# Altium integrated library Analog Devices Switches and Multiplexers Multiplexers (Muxes).IntLib: 481 symbols (part 14 of 23)
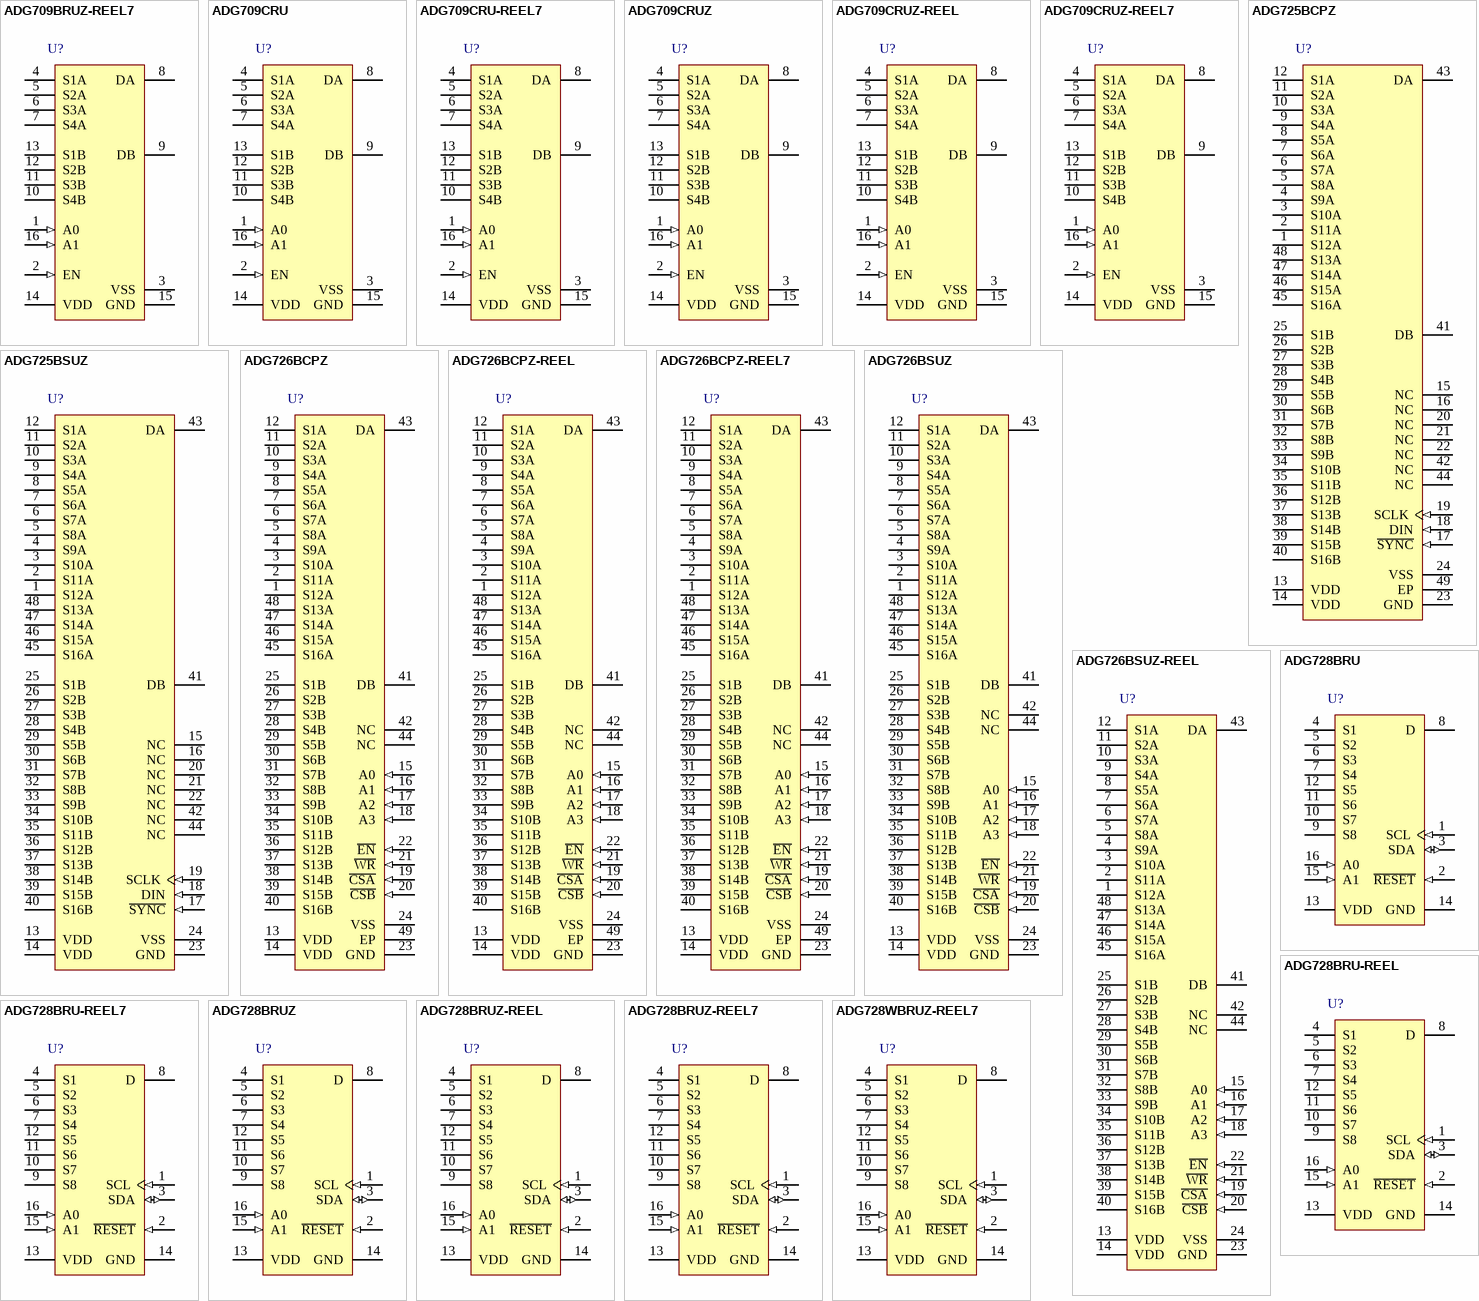
[diagram p30: symbols ADG709BRUZ-REEL7 to ADG728WBRUZ-REEL7]

## ADG726BCPZ-REEL
designator U?
1.8 to 5.5 V / +/-2.5 V, 4 Ohm, 16-Channel Analog Multiplexer, -40 to 85 degC, 48-pin QFN (CP-48-1), Reel; Manufacturer: Analog Devices; PartNumber: ADG726BCPZ-REEL; Bandwidth (Hz): 34M; Max Analog Signal Range: Vss to Vdd; Ron (ohms): 4; Supply V Guar Performance: Dual_(+/-2.5V), Single_(+3V), Single_(+5V); t transition (s): 23n; DatasheetVersion: Rev. 0; PackageReference: CP-48-1; PackageDescription: 48-Pin Lead Frame Chip Scale Package, Body 7 x 7 mm, Pitch 0.5 mm; Supplier 1: Digi-Key; Supplier Part Number 1: ADG726BCPZ-REEL-ND; Supplier 2: Mouser; Supplier Part Number 2: 584-ADG726BCPZ-R; Packing: Reel; Mounting Technology: Surface Mount; Code_JEDEC: MO-220-VKKD-2; ComponentLink1Description: Manufacturer URL; ComponentLink1URL: http://www.analog.com/en/index.html; ComponentLink2Description: Datasheet; ComponentLink2URL: http://www.analog.com/static/imported-files/data_sheets/ADG726_732.pdf; ComponentLink3Description: Package Specification; ComponentLink3URL: http:/www.analog.com/static/imported-files/packages/PKG_PDF/LFCSP(CP)/CP-48/CP_48_1.pdf
footprint ADI-CP-48-1_N (QFN, 48-Leads, Body 7x7mm, Pitch 0.5mm, IPC Medium Density)
footprint ADI-CP-48-1_L (QFN, 48-Leads, Body 7x7mm, Pitch 0.5mm, IPC High Density)
footprint ADI-CP-48-1_M (QFN, 48-Leads, Body 7x7mm, Pitch 0.5mm, IPC Low Density)
pins: 1 S12A "Source Terminal. May be an input or output.", 2 S11A "Source Terminal. May be an input or output.", 3 S10A "Source Terminal. May be an input or output.", 4 S9A "Source Terminal. May be an input or output.", 5 S8A "Source Terminal. May be an input or output.", 6 S7A "Source Terminal. May be an input or output.", 7 S6A "Source Terminal. May be an input or output.", 8 S5A "Source Terminal. May be an input or output.", 9 S4A "Source Terminal. May be an input or output.", 10 S3A "Source Terminal. May be an input or output.", 11 S2A "Source Terminal. May be an input or output.", 12 S1A "Source Terminal. May be an input or output.", 13 VDD (power) "Most Positive Power Supply Potential", 14 VDD (power) "Most Positive Power Supply Potential", 15 A0 (in), 16 A1 (in), 17 A2 (in), 18 A3 (in), 19 ~{CSA} (in), 20 ~{CSB} (in), 21 ~{WR} (in), 22 ~{EN} (in), 23 GND (power) "Ground (0 V) Reference", 24 VSS (power) "Most Negative Power Supply in a Dual-Supply Application. In single-supply applications, connect to GND.", 25 S1B "Source Terminal. May be an input or output.", 26 S2B "Source Terminal. May be an input or output.", 27 S3B "Source Terminal. May be an input or output.", 28 S4B "Source Terminal. May be an input or output.", 29 S5B "Source Terminal. May be an input or output.", 30 S6B "Source Terminal. May be an input or output.", 31 S7B "Source Terminal. May be an input or output.", 32 S8B "Source Terminal. May be an input or output.", 33 S9B "Source Terminal. May be an input or output.", 34 S10B "Source Terminal. May be an input or output.", 35 S11B "Source Terminal. May be an input or output.", 36 S12B "Source Terminal. May be an input or output.", 37 S13B "Source Terminal. May be an input or output.", 38 S14B "Source Terminal. May be an input or output.", 39 S15B "Source Terminal. May be an input or output.", 40 S16B "Source Terminal. May be an input or output.", 41 DB "Drain Terminal. May be an input or output.", 42 NC "No connect", 43 DA "Drain Terminal. May be an input or output.", 44 NC "No connect", 45 S16A "Source Terminal. May be an input or output.", 46 S15A "Source Terminal. May be an input or output.", 47 S14A "Source Terminal. May be an input or output.", 48 S13A "Source Terminal. May be an input or output.", 49 EP

## ADG726BCPZ-REEL7
designator U?
1.8 to 5.5 V / +/-2.5 V, 4 Ohm, 16-Channel Analog Multiplexer, -40 to 85 degC, 48-pin QFN (CP-48-1), Reel; Manufacturer: Analog Devices; PartNumber: ADG726BCPZ-REEL7; Bandwidth (Hz): 34M; Max Analog Signal Range: Vss to Vdd; Ron (ohms): 4; Supply V Guar Performance: Dual_(+/-2.5V), Single_(+3V), Single_(+5V); t transition (s): 23n; DatasheetVersion: Rev. 0; PackageReference: CP-48-1; PackageDescription: 48-Pin Lead Frame Chip Scale Package, Body 7 x 7 mm, Pitch 0.5 mm; Packing: Reel; Mounting Technology: Surface Mount; Code_JEDEC: MO-220-VKKD-2; ComponentLink1Description: Manufacturer URL; ComponentLink1URL: http://www.analog.com/en/index.html; ComponentLink2Description: Datasheet; ComponentLink2URL: http://www.analog.com/static/imported-files/data_sheets/ADG726_732.pdf; ComponentLink3Description: Package Specification; ComponentLink3URL: http:/www.analog.com/static/imported-files/packages/PKG_PDF/LFCSP(CP)/CP-48/CP_48_1.pdf
footprint ADI-CP-48-1_N (QFN, 48-Leads, Body 7x7mm, Pitch 0.5mm, IPC Medium Density)
footprint ADI-CP-48-1_L (QFN, 48-Leads, Body 7x7mm, Pitch 0.5mm, IPC High Density)
footprint ADI-CP-48-1_M (QFN, 48-Leads, Body 7x7mm, Pitch 0.5mm, IPC Low Density)
pins: 1 S12A "Source Terminal. May be an input or output.", 2 S11A "Source Terminal. May be an input or output.", 3 S10A "Source Terminal. May be an input or output.", 4 S9A "Source Terminal. May be an input or output.", 5 S8A "Source Terminal. May be an input or output.", 6 S7A "Source Terminal. May be an input or output.", 7 S6A "Source Terminal. May be an input or output.", 8 S5A "Source Terminal. May be an input or output.", 9 S4A "Source Terminal. May be an input or output.", 10 S3A "Source Terminal. May be an input or output.", 11 S2A "Source Terminal. May be an input or output.", 12 S1A "Source Terminal. May be an input or output.", 13 VDD (power) "Most Positive Power Supply Potential", 14 VDD (power) "Most Positive Power Supply Potential", 15 A0 (in), 16 A1 (in), 17 A2 (in), 18 A3 (in), 19 ~{CSA} (in), 20 ~{CSB} (in), 21 ~{WR} (in), 22 ~{EN} (in), 23 GND (power) "Ground (0 V) Reference", 24 VSS (power) "Most Negative Power Supply in a Dual-Supply Application. In single-supply applications, connect to GND.", 25 S1B "Source Terminal. May be an input or output.", 26 S2B "Source Terminal. May be an input or output.", 27 S3B "Source Terminal. May be an input or output.", 28 S4B "Source Terminal. May be an input or output.", 29 S5B "Source Terminal. May be an input or output.", 30 S6B "Source Terminal. May be an input or output.", 31 S7B "Source Terminal. May be an input or output.", 32 S8B "Source Terminal. May be an input or output.", 33 S9B "Source Terminal. May be an input or output.", 34 S10B "Source Terminal. May be an input or output.", 35 S11B "Source Terminal. May be an input or output.", 36 S12B "Source Terminal. May be an input or output.", 37 S13B "Source Terminal. May be an input or output.", 38 S14B "Source Terminal. May be an input or output.", 39 S15B "Source Terminal. May be an input or output.", 40 S16B "Source Terminal. May be an input or output.", 41 DB "Drain Terminal. May be an input or output.", 42 NC "No connect", 43 DA "Drain Terminal. May be an input or output.", 44 NC "No connect", 45 S16A "Source Terminal. May be an input or output.", 46 S15A "Source Terminal. May be an input or output.", 47 S14A "Source Terminal. May be an input or output.", 48 S13A "Source Terminal. May be an input or output.", 49 EP

## ADG726BSUZ
designator U?
1.8 to 5.5 V / +/-2.5 V, 4 Ohm, 16-Channel Analog Multiplexer, -40 to 85 degC, 48-pin QFP (SU-48), Tray; Manufacturer: Analog Devices; PartNumber: ADG726BSUZ; Bandwidth (Hz): 34M; Max Analog Signal Range: Vss to Vdd; Ron (ohms): 4; Supply V Guar Performance: Dual_(+/-2.5V), Single_(+3V), Single_(+5V); t transition (s): 23n; DatasheetVersion: Rev. 0; PackageReference: SU-48; PackageDescription: 48-Pin Thin Plastic Quad Flat Package, Body 7 x 7 mm, Pitch 0.5 mm; Supplier 1: Digi-Key; Supplier Part Number 1: ADG726BSUZ-ND; Supplier 2: Farnell; Supplier Part Number 2: 1438753; Supplier 3: Newark; Supplier Part Number 3: 59K1555; Supplier 4: Mouser; Supplier Part Number 4: 584-ADG726BSUZ; Packing: Tray; Mounting Technology: Surface Mount; Code_JEDEC: MS-026ABC; ComponentLink1Description: Manufacturer URL; ComponentLink1URL: http://www.analog.com/en/index.html; ComponentLink2Description: Datasheet; ComponentLink2URL: http://www.analog.com/static/imported-files/data_sheets/ADG726_732.pdf; ComponentLink3Description: Package Specification; ComponentLink3URL: http://www.analog.com/static/imported-files/packages/470644706845302410119987SU48_7x7.pdf
footprint ADI-SU-48_N (QFP, 48-Leads, Body 7x7mm, Pitch 0.5mm, IPC Medium Density)
footprint ADI-SU-48_L (QFP, 48-Leads, Body 7x7mm, Pitch 0.5mm, IPC High Density)
footprint ADI-SU-48_M (QFP, 48-Leads, Body 7x7mm, Pitch 0.5mm, IPC Low Density)
pins: 1 S12A "Source Terminal. May be an input or output.", 2 S11A "Source Terminal. May be an input or output.", 3 S10A "Source Terminal. May be an input or output.", 4 S9A "Source Terminal. May be an input or output.", 5 S8A "Source Terminal. May be an input or output.", 6 S7A "Source Terminal. May be an input or output.", 7 S6A "Source Terminal. May be an input or output.", 8 S5A "Source Terminal. May be an input or output.", 9 S4A "Source Terminal. May be an input or output.", 10 S3A "Source Terminal. May be an input or output.", 11 S2A "Source Terminal. May be an input or output.", 12 S1A "Source Terminal. May be an input or output.", 13 VDD (power) "Most Positive Power Supply Potential", 14 VDD (power) "Most Positive Power Supply Potential", 15 A0 (in), 16 A1 (in), 17 A2 (in), 18 A3 (in), 19 ~{CSA} (in), 20 ~{CSB} (in), 21 ~{WR} (in), 22 ~{EN} (in), 23 GND (power) "Ground (0 V) Reference", 24 VSS (power) "Most Negative Power Supply in a Dual-Supply Application. In single-supply applications, connect to GND.", 25 S1B "Source Terminal. May be an input or output.", 26 S2B "Source Terminal. May be an input or output.", 27 S3B "Source Terminal. May be an input or output.", 28 S4B "Source Terminal. May be an input or output.", 29 S5B "Source Terminal. May be an input or output.", 30 S6B "Source Terminal. May be an input or output.", 31 S7B "Source Terminal. May be an input or output.", 32 S8B "Source Terminal. May be an input or output.", 33 S9B "Source Terminal. May be an input or output.", 34 S10B "Source Terminal. May be an input or output.", 35 S11B "Source Terminal. May be an input or output.", 36 S12B "Source Terminal. May be an input or output.", 37 S13B "Source Terminal. May be an input or output.", 38 S14B "Source Terminal. May be an input or output.", 39 S15B "Source Terminal. May be an input or output.", 40 S16B "Source Terminal. May be an input or output.", 41 DB "Drain Terminal. May be an input or output.", 42 NC "NO CONNECT", 43 DA "Drain Terminal. May be an input or output.", 44 NC "NO CONNECT", 45 S16A "Source Terminal. May be an input or output.", 46 S15A "Source Terminal. May be an input or output.", 47 S14A "Source Terminal. May be an input or output.", 48 S13A "Source Terminal. May be an input or output."

## ADG726BSUZ-REEL
designator U?
1.8 to 5.5 V / +/-2.5 V, 4 Ohm, 16-Channel Analog Multiplexer, -40 to 85 degC, 48-pin QFP (SU-48), Reel; Manufacturer: Analog Devices; PartNumber: ADG726BSUZ-REEL; Bandwidth (Hz): 34M; Max Analog Signal Range: Vss to Vdd; Ron (ohms): 4; Supply V Guar Performance: Dual_(+/-2.5V), Single_(+3V), Single_(+5V); t transition (s): 23n; DatasheetVersion: Rev. 0; PackageReference: SU-48; PackageDescription: 48-Pin Thin Plastic Quad Flat Package, Body 7 x 7 mm, Pitch 0.5 mm; Supplier 1: Digi-Key; Supplier Part Number 1: ADG726BSUZ-REEL-ND; Supplier 2: Mouser; Supplier Part Number 2: 584-ADG726BSUZ-R; Packing: Reel; Mounting Technology: Surface Mount; Code_JEDEC: MS-026ABC; ComponentLink1Description: Manufacturer URL; ComponentLink1URL: http://www.analog.com/en/index.html; ComponentLink2Description: Datasheet; ComponentLink2URL: http://www.analog.com/static/imported-files/data_sheets/ADG726_732.pdf; ComponentLink3Description: Package Specification; ComponentLink3URL: http://www.analog.com/static/imported-files/packages/470644706845302410119987SU48_7x7.pdf
footprint ADI-SU-48_N (QFP, 48-Leads, Body 7x7mm, Pitch 0.5mm, IPC Medium Density)
footprint ADI-SU-48_L (QFP, 48-Leads, Body 7x7mm, Pitch 0.5mm, IPC High Density)
footprint ADI-SU-48_M (QFP, 48-Leads, Body 7x7mm, Pitch 0.5mm, IPC Low Density)
pins: 1 S12A "Source Terminal. May be an input or output.", 2 S11A "Source Terminal. May be an input or output.", 3 S10A "Source Terminal. May be an input or output.", 4 S9A "Source Terminal. May be an input or output.", 5 S8A "Source Terminal. May be an input or output.", 6 S7A "Source Terminal. May be an input or output.", 7 S6A "Source Terminal. May be an input or output.", 8 S5A "Source Terminal. May be an input or output.", 9 S4A "Source Terminal. May be an input or output.", 10 S3A "Source Terminal. May be an input or output.", 11 S2A "Source Terminal. May be an input or output.", 12 S1A "Source Terminal. May be an input or output.", 13 VDD (power) "Most Positive Power Supply Potential", 14 VDD (power) "Most Positive Power Supply Potential", 15 A0 (in), 16 A1 (in), 17 A2 (in), 18 A3 (in), 19 ~{CSA} (in), 20 ~{CSB} (in), 21 ~{WR} (in), 22 ~{EN} (in), 23 GND (power) "Ground (0 V) Reference", 24 VSS (power) "Most Negative Power Supply in a Dual-Supply Application. In single-supply applications, connect to GND.", 25 S1B "Source Terminal. May be an input or output.", 26 S2B "Source Terminal. May be an input or output.", 27 S3B "Source Terminal. May be an input or output.", 28 S4B "Source Terminal. May be an input or output.", 29 S5B "Source Terminal. May be an input or output.", 30 S6B "Source Terminal. May be an input or output.", 31 S7B "Source Terminal. May be an input or output.", 32 S8B "Source Terminal. May be an input or output.", 33 S9B "Source Terminal. May be an input or output.", 34 S10B "Source Terminal. May be an input or output.", 35 S11B "Source Terminal. May be an input or output.", 36 S12B "Source Terminal. May be an input or output.", 37 S13B "Source Terminal. May be an input or output.", 38 S14B "Source Terminal. May be an input or output.", 39 S15B "Source Terminal. May be an input or output.", 40 S16B "Source Terminal. May be an input or output.", 41 DB "Drain Terminal. May be an input or output.", 42 NC "NO CONNECT", 43 DA "Drain Terminal. May be an input or output.", 44 NC "NO CONNECT", 45 S16A "Source Terminal. May be an input or output.", 46 S15A "Source Terminal. May be an input or output.", 47 S14A "Source Terminal. May be an input or output.", 48 S13A "Source Terminal. May be an input or output."

## ADG728BRU
designator U?
CMOS, Low Voltage, 2-Wire Serially Controlled, Matrix Switch, -40 to 85 degC, 16-pin SOP (RU-16), Tube; Manufacturer: Analog Devices; PartNumber: ADG728BRU; Bandwidth (Hz): 65M; Max Analog Signal Range: 0 to Vdd; Ron (ohms): 2.5; Supply V Guar Performance: Single_(+3V), Single_(+5V); DatasheetVersion: Rev. C; PackageVersion: Nov-02; PackageReference: RU-16; PackageDescription: 16-Pin Thin Shrink Small Outline Package, Body 5 x 4.4 mm, Pitch 0.65 mm; Supplier 1: Digi-Key; Supplier Part Number 1: ADG728BRU-ND; Supplier 2: Mouser; Supplier Part Number 2: 584-ADG728BRU; Packing: Tube; Mounting Technology: Surface Mount; Code_JEDEC: MO-153AB; ComponentLink1Description: Manufacturer URL; ComponentLink1URL: http://www.analog.com/en/index.html; ComponentLink2Description: Datasheet; ComponentLink2URL: http://www.analog.com/static/imported-files/data_sheets/ADG728_729.pdf; ComponentLink3Description: Package Specification; ComponentLink3URL: http:/www.analog.com/static/imported-files/packages/36244347913743854010197452789RU16.pdf
footprint ADI-RU-16_N (SOP, 16-Leads, Body 5x4.4mm, Pitch 0.65mm, IPC Medium Density)
footprint ADI-RU-16_L (SOP, 16-Leads, Body 5x4.4mm, Pitch 0.65mm, IPC High Density)
footprint ADI-RU-16_M (SOP, 16-Leads, Body 5x4.4mm, Pitch 0.65mm, IPC Low Density)
pins: 1 SCL (in) "Serial Clock Line. This is used in conjunction with the SDA line to clock data into the 8-bit input shift register. Clock rates of up to 400 kbit/s can be accommodated with this 2-wire serial interface.", 2 ~{RESET} (in) "Active low control input that clears the input register and turns all switches to the OFF condition.", 3 SDA (io) "Serial Data Line. This is used in conjunction with the SCL line to clock data into the 8-bit input shift register during the write cycle and used to read back 1 byte of data during the read cycle. It is a bidirectional (See Datasheet)", 4 S1 "Source. May be an input or output.", 5 S2 "Source. May be an input or output.", 6 S3 "Source. May be an input or output.", 7 S4 "Source. May be an input or output.", 8 D "Drain. May be an input or output.", 9 S8 "Source. May be an input or output.", 10 S7 "Source. May be an input or output.", 11 S6 "Source. May be an input or output.", 12 S5 "Source. May be an input or output.", 13 VDD (power) "Power Supply Input. These parts can be operated from a supply of 2.7 V to 5.5 V.", 14 GND (power) "Ground Reference.", 15 A1 (in) "Address Input. Sets the second least significant bit of the 7-bit slave address.", 16 A0 (in) "Address Input. Sets the least significant bit of the 7-bit slave address."

## ADG728BRU-REEL
designator U?
CMOS, Low Voltage, 2-Wire Serially Controlled, Matrix Switch, -40 to 85 degC, 16-pin SOP (RU-16), Reel; Manufacturer: Analog Devices; PartNumber: ADG728BRU-REEL; Bandwidth (Hz): 65M; Max Analog Signal Range: 0 to Vdd; Ron (ohms): 2.5; Supply V Guar Performance: Single_(+3V), Single_(+5V); DatasheetVersion: Rev. C; PackageVersion: Nov-02; PackageReference: RU-16; PackageDescription: 16-Pin Thin Shrink Small Outline Package, Body 5 x 4.4 mm, Pitch 0.65 mm; Supplier 1: Digi-Key; Supplier Part Number 1: ADG728BRU-REEL-ND; Supplier 2: Mouser; Supplier Part Number 2: 584-ADG728BRU-R; Packing: Reel; Mounting Technology: Surface Mount; Code_JEDEC: MO-153AB; ComponentLink1Description: Manufacturer URL; ComponentLink1URL: http://www.analog.com/en/index.html; ComponentLink2Description: Datasheet; ComponentLink2URL: http://www.analog.com/static/imported-files/data_sheets/ADG728_729.pdf; ComponentLink3Description: Package Specification; ComponentLink3URL: http:/www.analog.com/static/imported-files/packages/36244347913743854010197452789RU16.pdf
footprint ADI-RU-16_N (SOP, 16-Leads, Body 5x4.4mm, Pitch 0.65mm, IPC Medium Density)
footprint ADI-RU-16_L (SOP, 16-Leads, Body 5x4.4mm, Pitch 0.65mm, IPC High Density)
footprint ADI-RU-16_M (SOP, 16-Leads, Body 5x4.4mm, Pitch 0.65mm, IPC Low Density)
pins: 1 SCL (in) "Serial Clock Line. This is used in conjunction with the SDA line to clock data into the 8-bit input shift register. Clock rates of up to 400 kbit/s can be accommodated with this 2-wire serial interface.", 2 ~{RESET} (in) "Active low control input that clears the input register and turns all switches to the OFF condition.", 3 SDA (io) "Serial Data Line. This is used in conjunction with the SCL line to clock data into the 8-bit input shift register during the write cycle and used to read back 1 byte of data during the read cycle. It is a bidirectional (See Datasheet)", 4 S1 "Source. May be an input or output.", 5 S2 "Source. May be an input or output.", 6 S3 "Source. May be an input or output.", 7 S4 "Source. May be an input or output.", 8 D "Drain. May be an input or output.", 9 S8 "Source. May be an input or output.", 10 S7 "Source. May be an input or output.", 11 S6 "Source. May be an input or output.", 12 S5 "Source. May be an input or output.", 13 VDD (power) "Power Supply Input. These parts can be operated from a supply of 2.7 V to 5.5 V.", 14 GND (power) "Ground Reference.", 15 A1 (in) "Address Input. Sets the second least significant bit of the 7-bit slave address.", 16 A0 (in) "Address Input. Sets the least significant bit of the 7-bit slave address."

## ADG728BRU-REEL7
designator U?
CMOS, Low Voltage, 2-Wire Serially Controlled, Matrix Switch, -40 to 85 degC, 16-pin SOP (RU-16), Reel; Manufacturer: Analog Devices; PartNumber: ADG728BRU-REEL7; Bandwidth (Hz): 65M; Max Analog Signal Range: 0 to Vdd; Ron (ohms): 2.5; Supply V Guar Performance: Single_(+3V), Single_(+5V); DatasheetVersion: Rev. C; PackageVersion: Nov-02; PackageReference: RU-16; PackageDescription: 16-Pin Thin Shrink Small Outline Package, Body 5 x 4.4 mm, Pitch 0.65 mm; Supplier 1: Digi-Key; Supplier Part Number 1: ADG728BRU-REEL7-ND; Supplier 2: Mouser; Supplier Part Number 2: 584-ADG728BRU-R7; Packing: Reel; Mounting Technology: Surface Mount; Code_JEDEC: MO-153AB; ComponentLink1Description: Manufacturer URL; ComponentLink1URL: http://www.analog.com/en/index.html; ComponentLink2Description: Datasheet; ComponentLink2URL: http://www.analog.com/static/imported-files/data_sheets/ADG728_729.pdf; ComponentLink3Description: Package Specification; ComponentLink3URL: http:/www.analog.com/static/imported-files/packages/36244347913743854010197452789RU16.pdf
footprint ADI-RU-16_N (SOP, 16-Leads, Body 5x4.4mm, Pitch 0.65mm, IPC Medium Density)
footprint ADI-RU-16_L (SOP, 16-Leads, Body 5x4.4mm, Pitch 0.65mm, IPC High Density)
footprint ADI-RU-16_M (SOP, 16-Leads, Body 5x4.4mm, Pitch 0.65mm, IPC Low Density)
pins: 1 SCL (in) "Serial Clock Line. This is used in conjunction with the SDA line to clock data into the 8-bit input shift register. Clock rates of up to 400 kbit/s can be accommodated with this 2-wire serial interface.", 2 ~{RESET} (in) "Active low control input that clears the input register and turns all switches to the OFF condition.", 3 SDA (io) "Serial Data Line. This is used in conjunction with the SCL line to clock data into the 8-bit input shift register during the write cycle and used to read back 1 byte of data during the read cycle. It is a bidirectional (See Datasheet)", 4 S1 "Source. May be an input or output.", 5 S2 "Source. May be an input or output.", 6 S3 "Source. May be an input or output.", 7 S4 "Source. May be an input or output.", 8 D "Drain. May be an input or output.", 9 S8 "Source. May be an input or output.", 10 S7 "Source. May be an input or output.", 11 S6 "Source. May be an input or output.", 12 S5 "Source. May be an input or output.", 13 VDD (power) "Power Supply Input. These parts can be operated from a supply of 2.7 V to 5.5 V.", 14 GND (power) "Ground Reference.", 15 A1 (in) "Address Input. Sets the second least significant bit of the 7-bit slave address.", 16 A0 (in) "Address Input. Sets the least significant bit of the 7-bit slave address."

## ADG728BRUZ
designator U?
CMOS, Low Voltage, 2-Wire Serially Controlled, Matrix Switch, -40 to 85 degC, 16-pin SOP (RU-16), Tube; Manufacturer: Analog Devices; PartNumber: ADG728BRUZ; Bandwidth (Hz): 65M; Max Analog Signal Range: 0 to Vdd; Ron (ohms): 2.5; Supply V Guar Performance: Single_(+3V), Single_(+5V); DatasheetVersion: Rev. C; PackageVersion: Nov-02; PackageReference: RU-16; PackageDescription: 16-Pin Thin Shrink Small Outline Package, Body 5 x 4.4 mm, Pitch 0.65 mm; Supplier 1: Digi-Key; Supplier Part Number 1: ADG728BRUZ-ND; Supplier 2: Farnell; Supplier Part Number 2: 9604383; Supplier 3: Newark; Supplier Part Number 3: 31M3815; Supplier 4: Newark; Supplier Part Number 4: 19M0691; Supplier 5: Mouser; Supplier Part Number 5: 584-ADG728BRUZ; Packing: Tube; Mounting Technology: Surface Mount; Code_JEDEC: MO-153AB; ComponentLink1Description: Manufacturer URL; ComponentLink1URL: http://www.analog.com/en/index.html; ComponentLink2Description: Datasheet; ComponentLink2URL: http://www.analog.com/static/imported-files/data_sheets/ADG728_729.pdf; ComponentLink3Description: Package Specification; ComponentLink3URL: http:/www.analog.com/static/imported-files/packages/36244347913743854010197452789RU16.pdf
footprint ADI-RU-16_N (SOP, 16-Leads, Body 5x4.4mm, Pitch 0.65mm, IPC Medium Density)
footprint ADI-RU-16_L (SOP, 16-Leads, Body 5x4.4mm, Pitch 0.65mm, IPC High Density)
footprint ADI-RU-16_M (SOP, 16-Leads, Body 5x4.4mm, Pitch 0.65mm, IPC Low Density)
pins: 1 SCL (in) "Serial Clock Line. This is used in conjunction with the SDA line to clock data into the 8-bit input shift register. Clock rates of up to 400 kbit/s can be accommodated with this 2-wire serial interface.", 2 ~{RESET} (in) "Active low control input that clears the input register and turns all switches to the OFF condition.", 3 SDA (io) "Serial Data Line. This is used in conjunction with the SCL line to clock data into the 8-bit input shift register during the write cycle and used to read back 1 byte of data during the read cycle. It is a bidirectional (See Datasheet)", 4 S1 "Source. May be an input or output.", 5 S2 "Source. May be an input or output.", 6 S3 "Source. May be an input or output.", 7 S4 "Source. May be an input or output.", 8 D "Drain. May be an input or output.", 9 S8 "Source. May be an input or output.", 10 S7 "Source. May be an input or output.", 11 S6 "Source. May be an input or output.", 12 S5 "Source. May be an input or output.", 13 VDD (power) "Power Supply Input. These parts can be operated from a supply of 2.7 V to 5.5 V.", 14 GND (power) "Ground Reference.", 15 A1 (in) "Address Input. Sets the second least significant bit of the 7-bit slave address.", 16 A0 (in) "Address Input. Sets the least significant bit of the 7-bit slave address."

## ADG728BRUZ-REEL
designator U?
CMOS, Low Voltage, 2-Wire Serially Controlled, Matrix Switch, -40 to 85 degC, 16-pin SOP (RU-16), Reel; Manufacturer: Analog Devices; PartNumber: ADG728BRUZ-REEL; Bandwidth (Hz): 65M; Max Analog Signal Range: 0 to Vdd; Ron (ohms): 2.5; Supply V Guar Performance: Single_(+3V), Single_(+5V); DatasheetVersion: Rev. C; PackageVersion: Nov-02; PackageReference: RU-16; PackageDescription: 16-Pin Thin Shrink Small Outline Package, Body 5 x 4.4 mm, Pitch 0.65 mm; Supplier 1: Digi-Key; Supplier Part Number 1: ADG728BRUZ-REEL-ND; Supplier 2: Newark; Supplier Part Number 2: 59K1558; Packing: Reel; Mounting Technology: Surface Mount; Code_JEDEC: MO-153AB; ComponentLink1Description: Manufacturer URL; ComponentLink1URL: http://www.analog.com/en/index.html; ComponentLink2Description: Datasheet; ComponentLink2URL: http://www.analog.com/static/imported-files/data_sheets/ADG728_729.pdf; ComponentLink3Description: Package Specification; ComponentLink3URL: http:/www.analog.com/static/imported-files/packages/36244347913743854010197452789RU16.pdf
footprint ADI-RU-16_N (SOP, 16-Leads, Body 5x4.4mm, Pitch 0.65mm, IPC Medium Density)
footprint ADI-RU-16_L (SOP, 16-Leads, Body 5x4.4mm, Pitch 0.65mm, IPC High Density)
footprint ADI-RU-16_M (SOP, 16-Leads, Body 5x4.4mm, Pitch 0.65mm, IPC Low Density)
pins: 1 SCL (in) "Serial Clock Line. This is used in conjunction with the SDA line to clock data into the 8-bit input shift register. Clock rates of up to 400 kbit/s can be accommodated with this 2-wire serial interface.", 2 ~{RESET} (in) "Active low control input that clears the input register and turns all switches to the OFF condition.", 3 SDA (io) "Serial Data Line. This is used in conjunction with the SCL line to clock data into the 8-bit input shift register during the write cycle and used to read back 1 byte of data during the read cycle. It is a bidirectional (See Datasheet)", 4 S1 "Source. May be an input or output.", 5 S2 "Source. May be an input or output.", 6 S3 "Source. May be an input or output.", 7 S4 "Source. May be an input or output.", 8 D "Drain. May be an input or output.", 9 S8 "Source. May be an input or output.", 10 S7 "Source. May be an input or output.", 11 S6 "Source. May be an input or output.", 12 S5 "Source. May be an input or output.", 13 VDD (power) "Power Supply Input. These parts can be operated from a supply of 2.7 V to 5.5 V.", 14 GND (power) "Ground Reference.", 15 A1 (in) "Address Input. Sets the second least significant bit of the 7-bit slave address.", 16 A0 (in) "Address Input. Sets the least significant bit of the 7-bit slave address."

## ADG728BRUZ-REEL7
designator U?
CMOS, Low Voltage, 2-Wire Serially Controlled, Matrix Switch, -40 to 85 degC, 16-pin SOP (RU-16), Reel; Manufacturer: Analog Devices; PartNumber: ADG728BRUZ-REEL7; Bandwidth (Hz): 65M; Max Analog Signal Range: 0 to Vdd; Packing: Tube; Ron (ohms): 2.5; Supply V Guar Performance: Single_(+3V), Single_(+5V); DatasheetVersion: Rev. C; PackageVersion: Nov-02; PackageReference: RU-16; PackageDescription: 16-Pin Thin Shrink Small Outline Package, Body 5 x 4.4 mm, Pitch 0.65 mm; Supplier 1: Digi-Key; Supplier Part Number 1: ADG728BRUZ-REEL7-ND; Supplier 2: Newark; Supplier Part Number 2: 59K1559; Supplier 3: Mouser; Supplier Part Number 3: 584-ADG728BRUZ-R7; Mounting Technology: Surface Mount; Code_JEDEC: MO-153AB; ComponentLink1Description: Manufacturer URL; ComponentLink1URL: http://www.analog.com/en/index.html; ComponentLink2Description: Datasheet; ComponentLink2URL: http://www.analog.com/static/imported-files/data_sheets/ADG728_729.pdf; ComponentLink3Description: Package Specification; ComponentLink3URL: http:/www.analog.com/static/imported-files/packages/36244347913743854010197452789RU16.pdf
footprint ADI-RU-16_N (SOP, 16-Leads, Body 5x4.4mm, Pitch 0.65mm, IPC Medium Density)
footprint ADI-RU-16_L (SOP, 16-Leads, Body 5x4.4mm, Pitch 0.65mm, IPC High Density)
footprint ADI-RU-16_M (SOP, 16-Leads, Body 5x4.4mm, Pitch 0.65mm, IPC Low Density)
pins: 1 SCL (in) "Serial Clock Line. This is used in conjunction with the SDA line to clock data into the 8-bit input shift register. Clock rates of up to 400 kbit/s can be accommodated with this 2-wire serial interface.", 2 ~{RESET} (in) "Active low control input that clears the input register and turns all switches to the OFF condition.", 3 SDA (io) "Serial Data Line. This is used in conjunction with the SCL line to clock data into the 8-bit input shift register during the write cycle and used to read back 1 byte of data during the read cycle. It is a bidirectional (See Datasheet)", 4 S1 "Source. May be an input or output.", 5 S2 "Source. May be an input or output.", 6 S3 "Source. May be an input or output.", 7 S4 "Source. May be an input or output.", 8 D "Drain. May be an input or output.", 9 S8 "Source. May be an input or output.", 10 S7 "Source. May be an input or output.", 11 S6 "Source. May be an input or output.", 12 S5 "Source. May be an input or output.", 13 VDD (power) "Power Supply Input. These parts can be operated from a supply of 2.7 V to 5.5 V.", 14 GND (power) "Ground Reference.", 15 A1 (in) "Address Input. Sets the second least significant bit of the 7-bit slave address.", 16 A0 (in) "Address Input. Sets the least significant bit of the 7-bit slave address."

## ADG728WBRUZ-REEL7
designator U?
CMOS, Low Voltage, 2-Wire Serially Controlled, Matrix Switch, -40 to 85 degC, 16-pin SOP (RU-16), Reel; Manufacturer: Analog Devices; PartNumber: ADG728WBRUZ-REEL7; Bandwidth (Hz): 65M; Max Analog Signal Range: 0 to Vdd; Ron (ohms): 2.5; Supply V Guar Performance: Single_(+3V), Single_(+5V); DatasheetVersion: Rev. C; PackageVersion: Nov-02; PackageReference: RU-16; PackageDescription: 16-Pin Thin Shrink Small Outline Package, Body 5 x 4.4 mm, Pitch 0.65 mm; Supplier 1: Digi-Key; Supplier Part Number 1: ADG728WBRUZ-REEL7TR-ND; Supplier 2: Digi-Key; Supplier Part Number 2: ADG728WBRUZ-REEL7CT-ND; Supplier 3: Digi-Key; Supplier Part Number 3: ADG728WBRUZ-REEL7DKR-ND; Supplier 4: Mouser; Supplier Part Number 4: 584-ADG728WBRUZ-R7; Packing: Reel; Mounting Technology: Surface Mount; Code_JEDEC: MO-153AB; ComponentLink1Description: Manufacturer URL; ComponentLink1URL: http://www.analog.com/en/index.html; ComponentLink2Description: Datasheet; ComponentLink2URL: http://www.analog.com/static/imported-files/data_sheets/ADG728_729.pdf; ComponentLink3Description: Package Specification; ComponentLink3URL: http:/www.analog.com/static/imported-files/packages/36244347913743854010197452789RU16.pdf
footprint ADI-RU-16_N (SOP, 16-Leads, Body 5x4.4mm, Pitch 0.65mm, IPC Medium Density)
footprint ADI-RU-16_L (SOP, 16-Leads, Body 5x4.4mm, Pitch 0.65mm, IPC High Density)
footprint ADI-RU-16_M (SOP, 16-Leads, Body 5x4.4mm, Pitch 0.65mm, IPC Low Density)
pins: 1 SCL (in) "Serial Clock Line. This is used in conjunction with the SDA line to clock data into the 8-bit input shift register. Clock rates of up to 400 kbit/s can be accommodated with this 2-wire serial interface.", 2 ~{RESET} (in) "Active low control input that clears the input register and turns all switches to the OFF condition.", 3 SDA (io) "Serial Data Line. This is used in conjunction with the SCL line to clock data into the 8-bit input shift register during the write cycle and used to read back 1 byte of data during the read cycle. It is a bidirectional (See Datasheet)", 4 S1 "Source. May be an input or output.", 5 S2 "Source. May be an input or output.", 6 S3 "Source. May be an input or output.", 7 S4 "Source. May be an input or output.", 8 D "Drain. May be an input or output.", 9 S8 "Source. May be an input or output.", 10 S7 "Source. May be an input or output.", 11 S6 "Source. May be an input or output.", 12 S5 "Source. May be an input or output.", 13 VDD (power) "Power Supply Input. These parts can be operated from a supply of 2.7 V to 5.5 V.", 14 GND (power) "Ground Reference.", 15 A1 (in) "Address Input. Sets the second least significant bit of the 7-bit slave address.", 16 A0 (in) "Address Input. Sets the least significant bit of the 7-bit slave address."

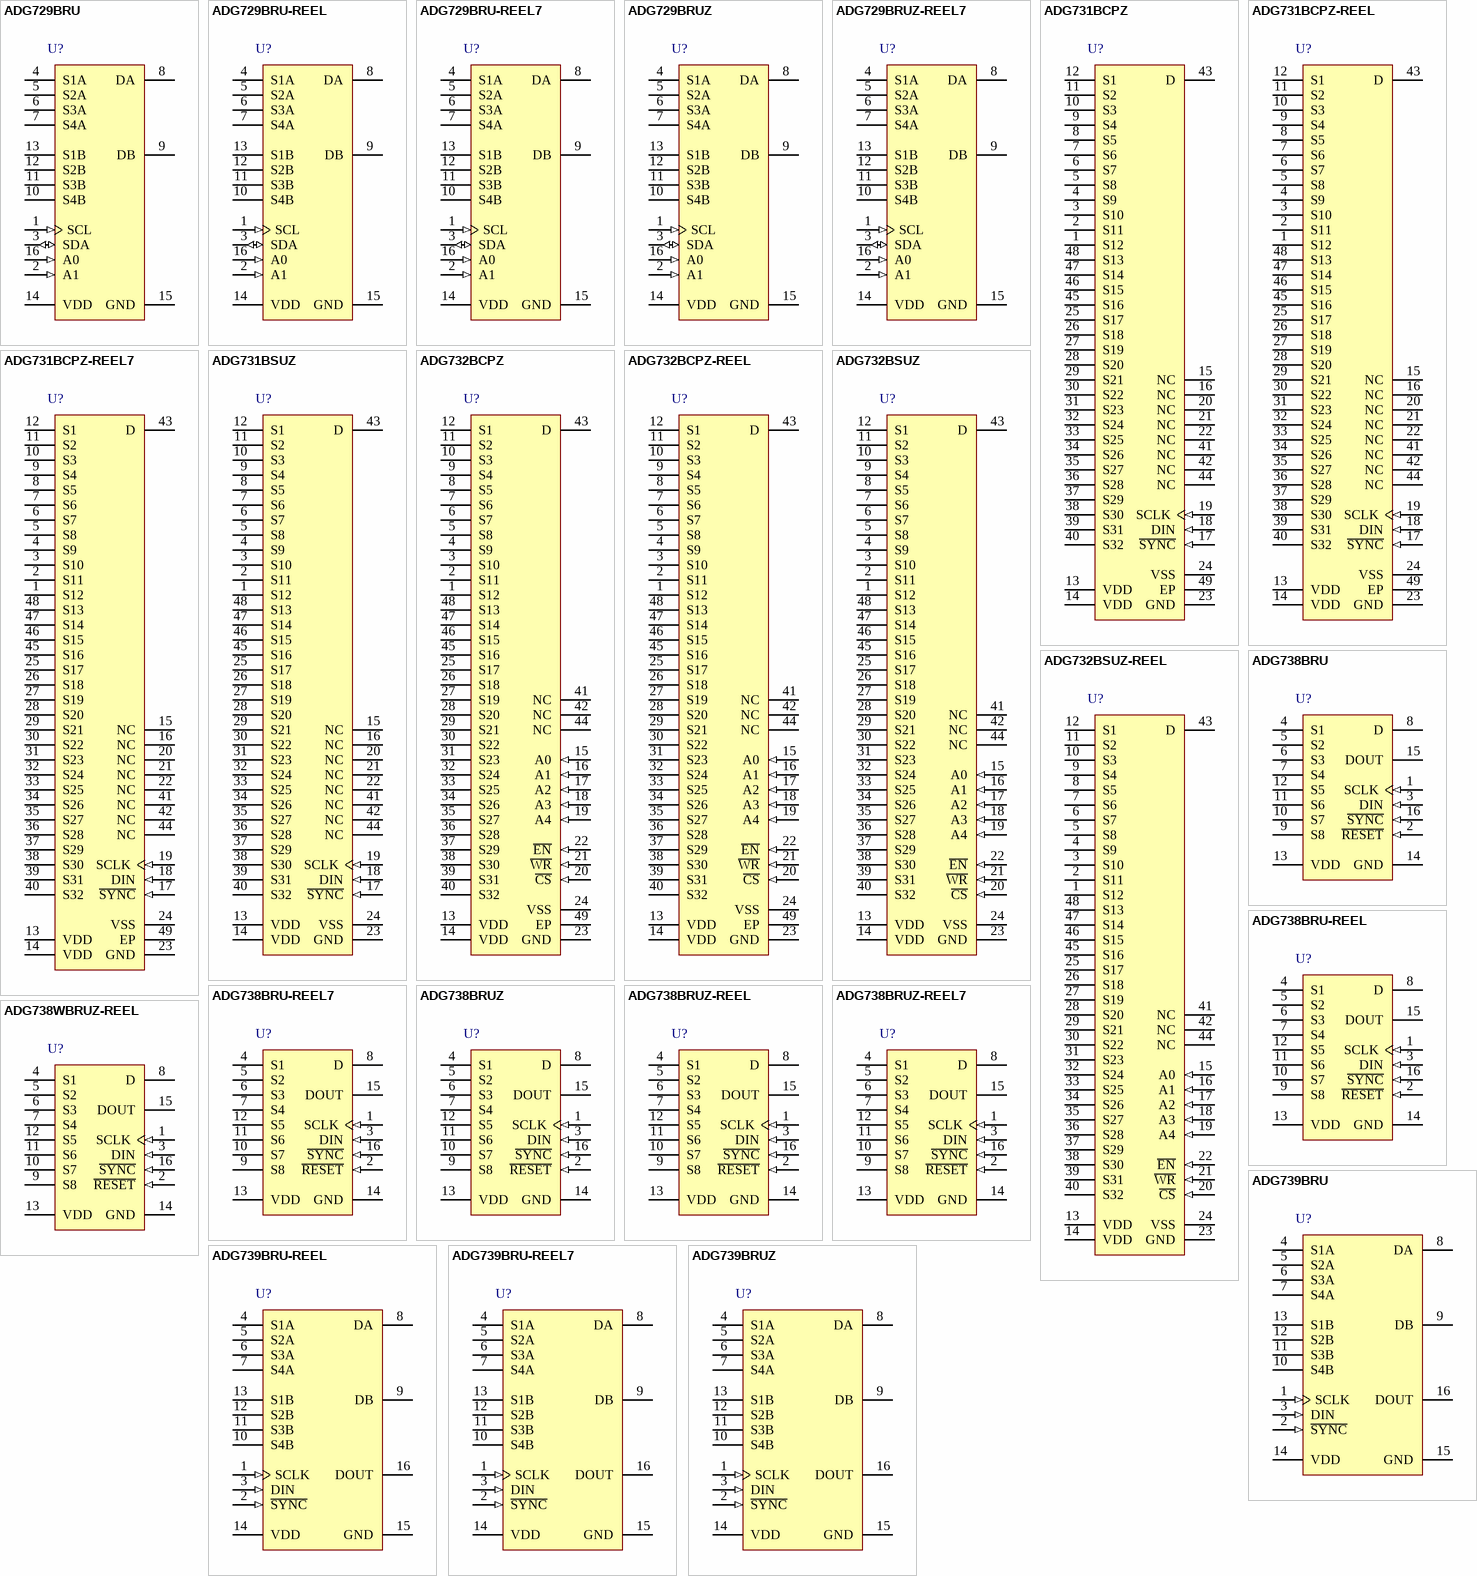
[diagram p11: symbols ADG729BRU to ADG739BRUZ]

## ADG729BRU
designator U?
CMOS, Low Voltage, 2-Wire Serially Controlled, Matrix Switch, -40 to 85 degC, 16-pin SOP (RU-16), Tube; Manufacturer: Analog Devices; PartNumber: ADG729BRU; Bandwidth (Hz): 100M; Max Analog Signal Range: 0 to Vdd; Ron (ohms): 2.5; Supply V Guar Performance: Single_(+3V), Single_(+5V); DatasheetVersion: Rev. C; PackageVersion: Nov-02; PackageReference: RU-16; PackageDescription: 16-Pin Thin Shrink Small Outline Package, Body 5 x 4.4 mm, Pitch 0.65 mm; Supplier 1: Digi-Key; Supplier Part Number 1: ADG729BRU-ND; Supplier 2: Mouser; Supplier Part Number 2: 584-ADG729BRU; Packing: Tube; Mounting Technology: Surface Mount; Code_JEDEC: MO-153AB; ComponentLink1Description: Manufacturer URL; ComponentLink1URL: http://www.analog.com/en/index.html; ComponentLink2Description: Datasheet; ComponentLink2URL: http://www.analog.com/static/imported-files/data_sheets/ADG728_729.pdf; ComponentLink3Description: Package Specification; ComponentLink3URL: http:/www.analog.com/static/imported-files/packages/36244347913743854010197452789RU16.pdf
footprint ADI-RU-16_N (SOP, 16-Leads, Body 5x4.4mm, Pitch 0.65mm, IPC Medium Density)
footprint ADI-RU-16_L (SOP, 16-Leads, Body 5x4.4mm, Pitch 0.65mm, IPC High Density)
footprint ADI-RU-16_M (SOP, 16-Leads, Body 5x4.4mm, Pitch 0.65mm, IPC Low Density)
pins: 1 SCL (in) "Serial Clock Line. This is used in conjunction with the SDA line to clock data into the 8-bit input shift register. Clock rates of up to 400 kbit/s can be accommodated with this 2-wire serial interface.", 2 A1 (in) "Address Input. Sets the second least significant bit of the 7-bit slave address.", 3 SDA (io) "Serial Data Line. This is used in conjunction with the SCL line to clock data into the 8-bit input shift register during the write cycle and used to read back 1 byte of data during the read cycle. It is a bidirectional (See Datasheet)", 4 S1A "Source. May be an input or output", 5 S2A "Source. May be an input or output", 6 S3A "Source. May be an input or output", 7 S4A "Source. May be an input or output", 8 DA "Drain. May be an input or output.", 9 DB "Drain. May be an input or output.", 10 S4B "Source. May be an input or output.", 11 S3B "Source. May be an input or output.", 12 S2B "Source. May be an input or output.", 13 S1B "Source. May be an input or output.", 14 VDD (power) "Power Supply Input. These parts can be operated from a supply of 2.7 V to 5.5 V.", 15 GND (power) "Ground Reference.", 16 A0 (in) "Address Input. Sets the least significant bit of the 7-bit slave address."

## ADG729BRU-REEL
designator U?
CMOS, Low Voltage, 2-Wire Serially Controlled, Matrix Switch, -40 to 85 degC, 16-pin SOP (RU-16), Reel; Manufacturer: Analog Devices; PartNumber: ADG729BRU-REEL; Bandwidth (Hz): 100M; Max Analog Signal Range: 0 to Vdd; Ron (ohms): 2.5; Supply V Guar Performance: Single_(+3V), Single_(+5V); DatasheetVersion: Rev. C; PackageVersion: Nov-02; PackageReference: RU-16; PackageDescription: 16-Pin Thin Shrink Small Outline Package, Body 5 x 4.4 mm, Pitch 0.65 mm; Supplier 1: Digi-Key; Supplier Part Number 1: ADG729BRU-REEL-ND; Supplier 2: Mouser; Supplier Part Number 2: 584-ADG729BRU-R; Packing: Reel; Mounting Technology: Surface Mount; Code_JEDEC: MO-153AB; ComponentLink1Description: Manufacturer URL; ComponentLink1URL: http://www.analog.com/en/index.html; ComponentLink2Description: Datasheet; ComponentLink2URL: http://www.analog.com/static/imported-files/data_sheets/ADG728_729.pdf; ComponentLink3Description: Package Specification; ComponentLink3URL: http:/www.analog.com/static/imported-files/packages/36244347913743854010197452789RU16.pdf
footprint ADI-RU-16_N (SOP, 16-Leads, Body 5x4.4mm, Pitch 0.65mm, IPC Medium Density)
footprint ADI-RU-16_L (SOP, 16-Leads, Body 5x4.4mm, Pitch 0.65mm, IPC High Density)
footprint ADI-RU-16_M (SOP, 16-Leads, Body 5x4.4mm, Pitch 0.65mm, IPC Low Density)
pins: 1 SCL (in) "Serial Clock Line. This is used in conjunction with the SDA line to clock data into the 8-bit input shift register. Clock rates of up to 400 kbit/s can be accommodated with this 2-wire serial interface.", 2 A1 (in) "Address Input. Sets the second least significant bit of the 7-bit slave address.", 3 SDA (io) "Serial Data Line. This is used in conjunction with the SCL line to clock data into the 8-bit input shift register during the write cycle and used to read back 1 byte of data during the read cycle. It is a bidirectional (See Datasheet)", 4 S1A "Source. May be an input or output", 5 S2A "Source. May be an input or output", 6 S3A "Source. May be an input or output", 7 S4A "Source. May be an input or output", 8 DA "Drain. May be an input or output.", 9 DB "Drain. May be an input or output.", 10 S4B "Source. May be an input or output.", 11 S3B "Source. May be an input or output.", 12 S2B "Source. May be an input or output.", 13 S1B "Source. May be an input or output.", 14 VDD (power) "Power Supply Input. These parts can be operated from a supply of 2.7 V to 5.5 V.", 15 GND (power) "Ground Reference.", 16 A0 (in) "Address Input. Sets the least significant bit of the 7-bit slave address."

## ADG729BRU-REEL7
designator U?
CMOS, Low Voltage, 2-Wire Serially Controlled, Matrix Switch, -40 to 85 degC, 16-pin SOP (RU-16), Reel; Manufacturer: Analog Devices; PartNumber: ADG729BRU-REEL7; Bandwidth (Hz): 100M; Max Analog Signal Range: 0 to Vdd; Ron (ohms): 2.5; Supply V Guar Performance: Single_(+3V), Single_(+5V); DatasheetVersion: Rev. C; PackageVersion: Nov-02; PackageReference: RU-16; PackageDescription: 16-Pin Thin Shrink Small Outline Package, Body 5 x 4.4 mm, Pitch 0.65 mm; Supplier 1: Digi-Key; Supplier Part Number 1: ADG729BRU-REEL7-ND; Supplier 2: Mouser; Supplier Part Number 2: 584-ADG729BRU-R7; Packing: Reel; Mounting Technology: Surface Mount; Code_JEDEC: MO-153AB; ComponentLink1Description: Manufacturer URL; ComponentLink1URL: http://www.analog.com/en/index.html; ComponentLink2Description: Datasheet; ComponentLink2URL: http://www.analog.com/static/imported-files/data_sheets/ADG728_729.pdf; ComponentLink3Description: Package Specification; ComponentLink3URL: http:/www.analog.com/static/imported-files/packages/36244347913743854010197452789RU16.pdf
footprint ADI-RU-16_N (SOP, 16-Leads, Body 5x4.4mm, Pitch 0.65mm, IPC Medium Density)
footprint ADI-RU-16_L (SOP, 16-Leads, Body 5x4.4mm, Pitch 0.65mm, IPC High Density)
footprint ADI-RU-16_M (SOP, 16-Leads, Body 5x4.4mm, Pitch 0.65mm, IPC Low Density)
pins: 1 SCL (in) "Serial Clock Line. This is used in conjunction with the SDA line to clock data into the 8-bit input shift register. Clock rates of up to 400 kbit/s can be accommodated with this 2-wire serial interface.", 2 A1 (in) "Address Input. Sets the second least significant bit of the 7-bit slave address.", 3 SDA (io) "Serial Data Line. This is used in conjunction with the SCL line to clock data into the 8-bit input shift register during the write cycle and used to read back 1 byte of data during the read cycle. It is a bidirectional (See Datasheet)", 4 S1A "Source. May be an input or output", 5 S2A "Source. May be an input or output", 6 S3A "Source. May be an input or output", 7 S4A "Source. May be an input or output", 8 DA "Drain. May be an input or output.", 9 DB "Drain. May be an input or output.", 10 S4B "Source. May be an input or output.", 11 S3B "Source. May be an input or output.", 12 S2B "Source. May be an input or output.", 13 S1B "Source. May be an input or output.", 14 VDD (power) "Power Supply Input. These parts can be operated from a supply of 2.7 V to 5.5 V.", 15 GND (power) "Ground Reference.", 16 A0 (in) "Address Input. Sets the least significant bit of the 7-bit slave address."

## ADG729BRUZ
designator U?
CMOS, Low Voltage, 2-Wire Serially Controlled, Matrix Switch, -40 to 85 degC, 16-pin SOP (RU-16), Tube; Manufacturer: Analog Devices; PartNumber: ADG729BRUZ; Bandwidth (Hz): 100M; Max Analog Signal Range: 0 to Vdd; Ron (ohms): 2.5; Supply V Guar Performance: Single_(+3V), Single_(+5V); DatasheetVersion: Rev. C; PackageVersion: Nov-02; PackageReference: RU-16; PackageDescription: 16-Pin Thin Shrink Small Outline Package, Body 5 x 4.4 mm, Pitch 0.65 mm; Supplier 1: Digi-Key; Supplier Part Number 1: ADG729BRUZ-ND; Supplier 2: Farnell; Supplier Part Number 2: 1079348; Supplier 3: Newark; Supplier Part Number 3: 31M3816; Supplier 4: Newark; Supplier Part Number 4: 19M0692; Supplier 5: Mouser; Supplier Part Number 5: 584-ADG729BRUZ; Packing: Tube; Mounting Technology: Surface Mount; Code_JEDEC: MO-153AB; ComponentLink1Description: Manufacturer URL; ComponentLink1URL: http://www.analog.com/en/index.html; ComponentLink2Description: Datasheet; ComponentLink2URL: http://www.analog.com/static/imported-files/data_sheets/ADG728_729.pdf; ComponentLink3Description: Package Specification; ComponentLink3URL: http:/www.analog.com/static/imported-files/packages/36244347913743854010197452789RU16.pdf
footprint ADI-RU-16_N (SOP, 16-Leads, Body 5x4.4mm, Pitch 0.65mm, IPC Medium Density)
footprint ADI-RU-16_L (SOP, 16-Leads, Body 5x4.4mm, Pitch 0.65mm, IPC High Density)
footprint ADI-RU-16_M (SOP, 16-Leads, Body 5x4.4mm, Pitch 0.65mm, IPC Low Density)
pins: 1 SCL (in) "Serial Clock Line. This is used in conjunction with the SDA line to clock data into the 8-bit input shift register. Clock rates of up to 400 kbit/s can be accommodated with this 2-wire serial interface.", 2 A1 (in) "Address Input. Sets the second least significant bit of the 7-bit slave address.", 3 SDA (io) "Serial Data Line. This is used in conjunction with the SCL line to clock data into the 8-bit input shift register during the write cycle and used to read back 1 byte of data during the read cycle. It is a bidirectional (See Datasheet)", 4 S1A "Source. May be an input or output", 5 S2A "Source. May be an input or output", 6 S3A "Source. May be an input or output", 7 S4A "Source. May be an input or output", 8 DA "Drain. May be an input or output.", 9 DB "Drain. May be an input or output.", 10 S4B "Source. May be an input or output.", 11 S3B "Source. May be an input or output.", 12 S2B "Source. May be an input or output.", 13 S1B "Source. May be an input or output.", 14 VDD (power) "Power Supply Input. These parts can be operated from a supply of 2.7 V to 5.5 V.", 15 GND (power) "Ground Reference.", 16 A0 (in) "Address Input. Sets the least significant bit of the 7-bit slave address."

## ADG729BRUZ-REEL7
designator U?
CMOS, Low Voltage, 2-Wire Serially Controlled, Matrix Switch, -40 to 85 degC, 16-pin SOP (RU-16), Reel; Manufacturer: Analog Devices; PartNumber: ADG729BRUZ-REEL7; Bandwidth (Hz): 100M; Max Analog Signal Range: 0 to Vdd; Ron (ohms): 2.5; Supply V Guar Performance: Single_(+3V), Single_(+5V); DatasheetVersion: Rev. C; PackageVersion: Nov-02; PackageReference: RU-16; PackageDescription: 16-Pin Thin Shrink Small Outline Package, Body 5 x 4.4 mm, Pitch 0.65 mm; Supplier 1: Digi-Key; Supplier Part Number 1: ADG729BRUZ-REEL7-ND; Supplier 2: Mouser; Supplier Part Number 2: 584-ADG729BRUZ-R7; Packing: Reel; Mounting Technology: Surface Mount; Code_JEDEC: MO-153AB; ComponentLink1Description: Manufacturer URL; ComponentLink1URL: http://www.analog.com/en/index.html; ComponentLink2Description: Datasheet; ComponentLink2URL: http://www.analog.com/static/imported-files/data_sheets/ADG728_729.pdf; ComponentLink3Description: Package Specification; ComponentLink3URL: http:/www.analog.com/static/imported-files/packages/36244347913743854010197452789RU16.pdf
footprint ADI-RU-16_N (SOP, 16-Leads, Body 5x4.4mm, Pitch 0.65mm, IPC Medium Density)
footprint ADI-RU-16_L (SOP, 16-Leads, Body 5x4.4mm, Pitch 0.65mm, IPC High Density)
footprint ADI-RU-16_M (SOP, 16-Leads, Body 5x4.4mm, Pitch 0.65mm, IPC Low Density)
pins: 1 SCL (in) "Serial Clock Line. This is used in conjunction with the SDA line to clock data into the 8-bit input shift register. Clock rates of up to 400 kbit/s can be accommodated with this 2-wire serial interface.", 2 A1 (in) "Address Input. Sets the second least significant bit of the 7-bit slave address.", 3 SDA (io) "Serial Data Line. This is used in conjunction with the SCL line to clock data into the 8-bit input shift register during the write cycle and used to read back 1 byte of data during the read cycle. It is a bidirectional (See Datasheet)", 4 S1A "Source. May be an input or output", 5 S2A "Source. May be an input or output", 6 S3A "Source. May be an input or output", 7 S4A "Source. May be an input or output", 8 DA "Drain. May be an input or output.", 9 DB "Drain. May be an input or output.", 10 S4B "Source. May be an input or output.", 11 S3B "Source. May be an input or output.", 12 S2B "Source. May be an input or output.", 13 S1B "Source. May be an input or output.", 14 VDD (power) "Power Supply Input. These parts can be operated from a supply of 2.7 V to 5.5 V.", 15 GND (power) "Ground Reference.", 16 A0 (in) "Address Input. Sets the least significant bit of the 7-bit slave address."